# Altium schematic symbol library TPS563200.Schlib: 1 symbol
Pins are listed as number, name and electrical type; pins without a type are passive.

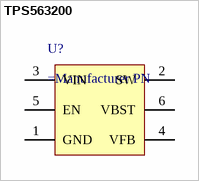
[diagram p0: symbol TPS563200]

## TPS563200
designator U?
Synchronous Buck Reg
pins: 1 GND, 2 SW, 3 VIN, 4 VFB, 5 EN, 6 VBST